# EAGLE library part FPC-38WAY (library pimoroni-fpc)
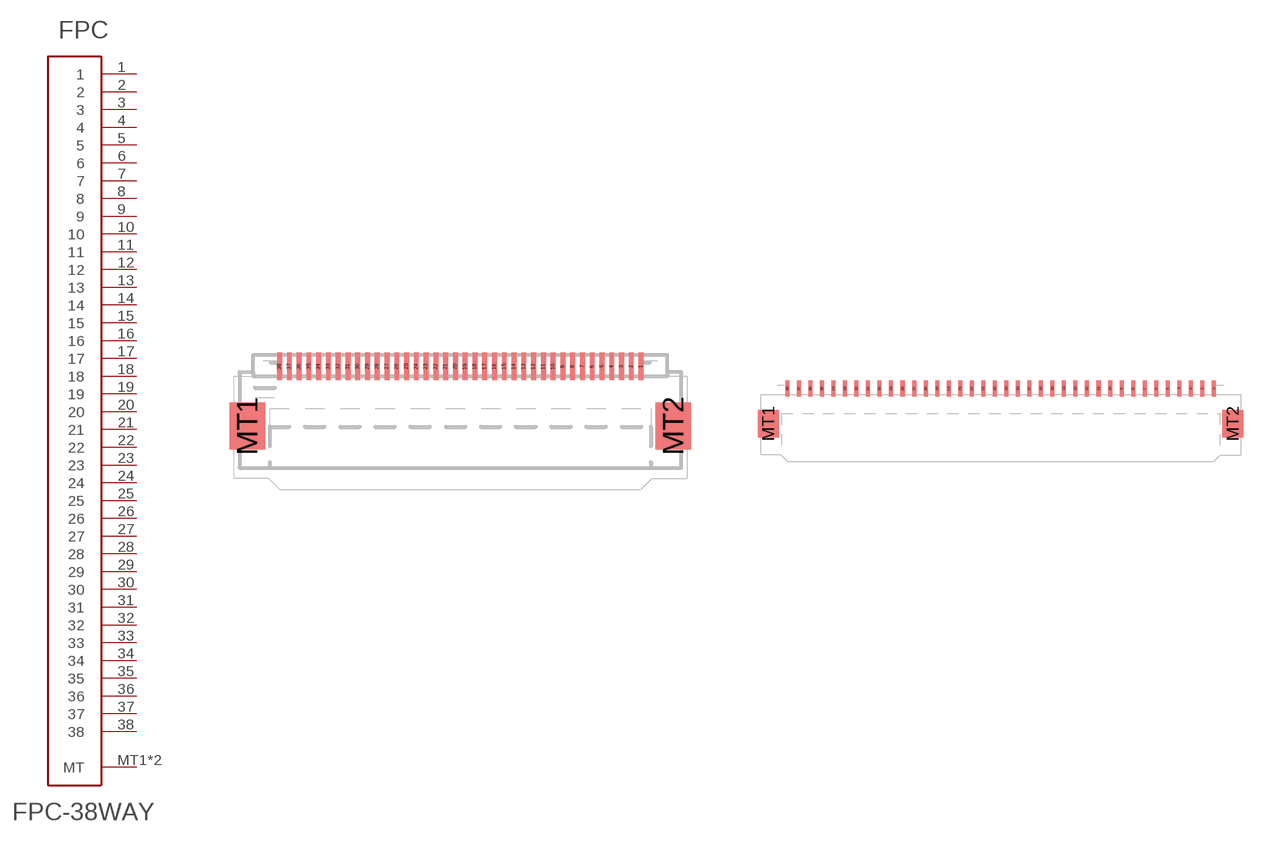
[diagram p33: symbol with the pads of FPC-0.5MM-38WAY; footprints FPC-0.5MM-38WAY, FPC-1.0MM-38WAY]

Designator prefix FPC

## FPC-38WAY0.5  [FPC-0.5MM-38WAY]
1  1
2  2
3  3
4  4
5  5
6  6
7  7
8  8
9  9
10  10
11  11
12  12
13  13
14  14
15  15
16  16
17  17
18  18
19  19
20  20
21  21
22  22
23  23
24  24
25  25
26  26
27  27
28  28
29  29
30  30
31  31
32  32
33  33
34  34
35  35
36  36
37  37
38  38
MT1  MT
MT2  MT

## FPC-38WAY1.0  [FPC-1.0MM-38WAY]
Pads as for FPC-0.5MM-38WAY

## Footprint FPC-0.5MM-38WAY (pad centres in mm)
smd 0.25 x 1.4: 1 9.25,0.7; 2 8.75,0.7; 3 8.25,0.7; 4 7.75,0.7; 5 7.25,0.7; 6 6.75,0.7; 7 6.25,0.7; 8 5.75,0.7; 9 5.25,0.7; 10 4.75,0.7; 11 4.25,0.7; 12 3.75,0.7; 13 3.25,0.7; 14 2.75,0.7; 15 2.25,0.7; 16 1.75,0.7; 17 1.25,0.7; 18 0.75,0.7; 19 0.25,0.7; 20 -0.25,0.7; 21 -0.75,0.7; 22 -1.25,0.7; 23 -1.75,0.7; 24 -2.25,0.7; 25 -2.75,0.7; 26 -3.25,0.7; 27 -3.75,0.7; 28 -4.25,0.7; 29 -4.75,0.7; 30 -5.25,0.7; 31 -5.75,0.7; 32 -6.25,0.7; 33 -6.75,0.7; 34 -7.25,0.7; 35 -7.75,0.7; 36 -8.25,0.7; 37 -8.75,0.7; 38 -9.25,0.7
smd 1.8 x 2.4: MT1 -10.9,-2.35; MT2 10.9,-2.35

## Footprint FPC-1.0MM-38WAY (pad centres in mm)
smd 0.35 x 1.4: 1 18.5,0.7; 2 17.5,0.7; 3 16.5,0.7; 4 15.5,0.7; 5 14.5,0.7; 6 13.5,0.7; 7 12.5,0.7; 8 11.5,0.7; 9 10.5,0.7; 10 9.5,0.7; 11 8.5,0.7; 12 7.5,0.7; 13 6.5,0.7; 14 5.5,0.7; 15 4.5,0.7; 16 3.5,0.7; 17 2.5,0.7; 18 1.5,0.7; 19 0.5,0.7; 20 -0.5,0.7; 21 -1.5,0.7; 22 -2.5,0.7; 23 -3.5,0.7; 24 -4.5,0.7; 25 -5.5,0.7; 26 -6.5,0.7; 27 -7.5,0.7; 28 -8.5,0.7; 29 -9.5,0.7; 30 -10.5,0.7; 31 -11.5,0.7; 32 -12.5,0.7; 33 -13.5,0.7; 34 -14.5,0.7; 35 -15.5,0.7; 36 -16.5,0.7; 37 -17.5,0.7; 38 -18.5,0.7
smd 1.8 x 2.4: MT1 -20.15,-2.35; MT2 20.15,-2.35